# EAGLE library part BME280 (library diy-modules)
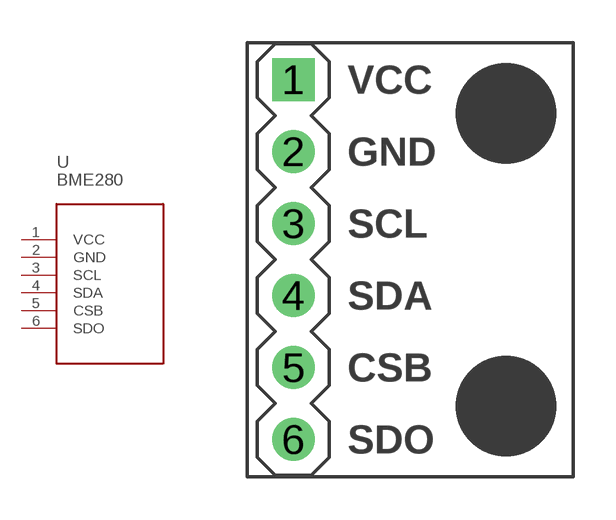
[diagram p68: symbol with the pads of BME280; footprint BME280]

Designator prefix -

## BME280  [BME280]
1  VCC  pwr
2  GND  pwr
3  SCL
4  SDA
5  CSB
6  SDO

## Footprint BME280 (pad centres in mm)
drill 1 square: 1 -8.001,10.16
drill 1: 2 -8.001,7.62; 3 -8.001,5.08; 4 -8.001,2.54; 5 -8.001,0; 6 -8.001,-2.54